# EAGLE library part SSW-118-22-G-D-VS (library SSW-118-22-G-D-VS)
36 Position, Tiger Buy™ Socket Strip with PCB Tails, 0.100" Pitch, Surface Mount Vertical Source: Datasheet <http://suddendocs.samtec.com/prints/ssw-1xx-22-xxx-x-vs-xx-x-xx-mkt.pdf>
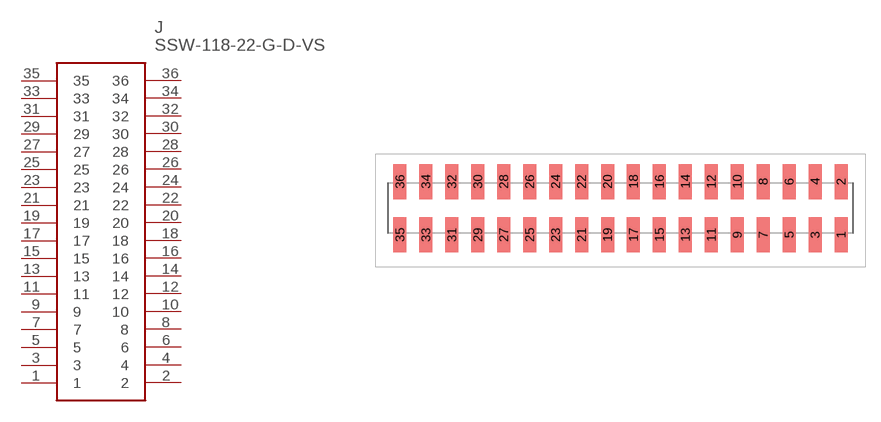
[diagram p0: symbol with the pads of SSW-118-22-XXX-D-VS; footprint SSW-118-22-XXX-D-VS]

Designator prefix J

## SSW-118-22-G-D-VS (ARROW_PART_NUMBER: SSW-118-22-G-D-VS; ARROW_PRICE-STOCK: https://www.arrow.com/en/products/ssw-118-22-g-d-vs/samtec; DESCRIPTION: 36 Position, Tiger Buy&trade; Socket Strip with PCB Tails, 0.100&quot; Pitch, Surface Mount Vertical; HEIGHT: mm; MANUFACTURER_NAME: SAMTEC; MANUFACTURER_PART_NUMBER: SSW-118-22-G-D-VS)  [SSW-118-22-XXX-D-VS]
1  1
2  2
3  3
4  4
5  5
6  6
7  7
8  8
9  9
10  10
11  11
12  12
13  13
14  14
15  15
16  16
17  17
18  18
19  19
20  20
21  21
22  22
23  23
24  24
25  25
26  26
27  27
28  28
29  29
30  30
31  31
32  32
33  33
34  34
35  35
36  36

## Footprint SSW-118-22-XXX-D-VS (pad centres in mm)
SSW-118-22-XXX-D-VS
smd 1.27 x 3.43: 1 21.59,-2.605; 2 21.59,2.605; 3 19.05,-2.605; 4 19.05,2.605; 5 16.51,-2.605; 6 16.51,2.605; 7 13.97,-2.605; 8 13.97,2.605; 9 11.43,-2.605; 10 11.43,2.605; 11 8.89,-2.605; 12 8.89,2.605; 13 6.35,-2.605; 14 6.35,2.605; 15 3.81,-2.605; 16 3.81,2.605; 17 1.27,-2.605; 18 1.27,2.605; 19 -1.27,-2.605; 20 -1.27,2.605; 21 -3.81,-2.605; 22 -3.81,2.605; 23 -6.35,-2.605; 24 -6.35,2.605; 25 -8.89,-2.605; 26 -8.89,2.605; 27 -11.43,-2.605; 28 -11.43,2.605; 29 -13.97,-2.605; 30 -13.97,2.605; 31 -16.51,-2.605; 32 -16.51,2.605; 33 -19.05,-2.605; 34 -19.05,2.605; 35 -21.59,-2.605; 36 -21.59,2.605